# Altium footprint library WJEK25425403P14000A.PcbLib: 1 footprints
Each footprint in its own frame and in the unit in brackets; x right, y up, seen from the top. Pads: shape width x height; smd on the part's side, far side on the other; paste and mask are expansions set on the pad; w line width, h text height; cw(c..) or ccw(c..) is an arc to the next point about the centre after c.
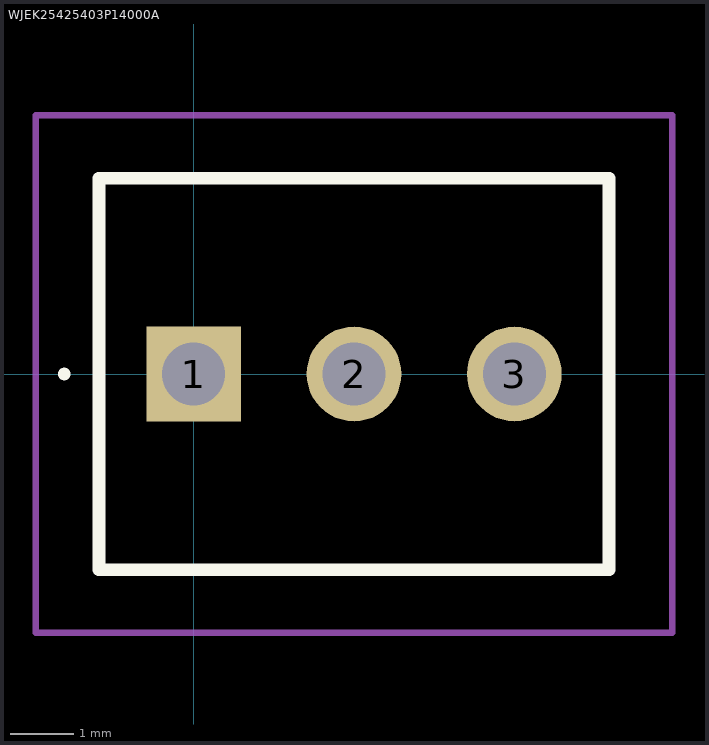
[diagram p0: the footprint, top view; thin cyan lines are the x and y axes]

## WJEK25425403P14000A [mm]
pads (3):
  rect 1.5x1.5 hole 1: 1(0,0)
  round 1.5 hole 1: 2(2.54,0) 3(5.08,0)
Top Overlay:
  lines w0.1: -2.1,0 cw(c-2.05,0) -2,0 ; -2.1,0 -2.1,0 ; -2.1,0 ccw(c-2.05,0) -2,0 ; -2,0 -2,0
  lines w0.2: -1.5,-3.1 6.58,-3.1 6.58,3.1 -1.5,3.1 -1.5,-3.1
Mechanical 15:
  lines w0.1: -1.5,-3.1 6.58,-3.1 6.58,3.1 -1.5,3.1 -1.5,-3.1
Mechanical 20:
  lines w0.1: -2.5,-4.1 7.58,-4.1 7.58,4.1 -2.5,4.1 -2.5,-4.1